# Altium footprint library HT7333.PcbLib: 1 footprints
Each footprint in its own frame and in the unit in brackets; x right, y up, seen from the top. Pads: shape width x height; smd on the part's side, far side on the other; paste and mask are expansions set on the pad; w line width, h text height; cw(c..) or ccw(c..) is an arc to the next point about the centre after c.
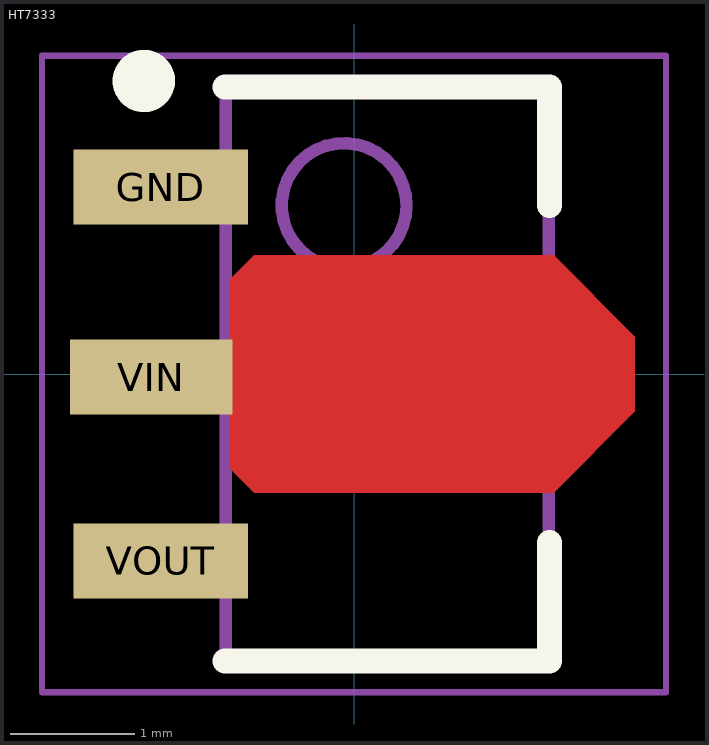
[diagram p0: the footprint, top view; thin cyan lines are the x and y axes]

## HT7333 [mm] "3.3V to 5V voltage regulator in SOT-89 package"
height 1.6
pads (3):
  rect 1.4x0.6 smd: GND(-1.55,1.499) VOUT(-1.55,-1.499)
  rect 1.3x0.6 smd: VIN(-1.626,-0.025)
Top Layer:
  region: -0.991,0.759 -0.8,0.95 1.6,0.95 2.25,0.3 2.25,-0.3 1.6,-0.95 -0.8,-0.95 -0.991,-0.759
Top Overlay:
  circle w0.25: c-1.684,2.349 r0.125
  lines w0.2: -1.034,-2.3 1.566,-2.3 1.566,-1.35 ; -1.034,2.3 1.566,2.3 1.566,1.35
Assembly Top:
  circle w0.1: c-0.079,1.35 r0.5
  lines w0.1: -1.029,-2.3 1.561,-2.3 1.561,2.3 -1.029,2.3 -1.029,-2.3
Courtyard Top:
  lines w0.05: -2.5,-2.55 2.5,-2.55 2.5,2.55 -2.5,2.55 -2.5,-2.55
  lines w0.1: -0.234,0 0.766,0 ; 0.266,-0.5 0.266,0.5
3D body: height 1.6, standoff 0, extent -1.029,-2.3 1.561,2.3